# Altium schematic symbol library SN74AUP1G32YFPR.SchLib: 2 symbols
Pins are listed as number, name and electrical type; pins without a type are passive.

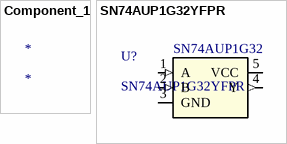
[diagram p0: symbols Component_1 to SN74AUP1G32YFPR]

## Component_1
designator *

## SN74AUP1G32YFPR
designator U?
No Description Available; Mfr_Name: Texas Instruments; Copyright: Copyright (C) 2023 Ultra Librarian. All rights reserved.; Manufacturer_Part_Number: SN74AUP1G32YFPR; RefDes: RefDes; Type: DEV
footprint YFP6
pins: 1 A (in), 2 B (in), 3 GND, 4 Y (out), 5 VCC (power)
text: SN74AUP1G32